# EAGLE library part SN65LVDS349 (library texas-instruments)
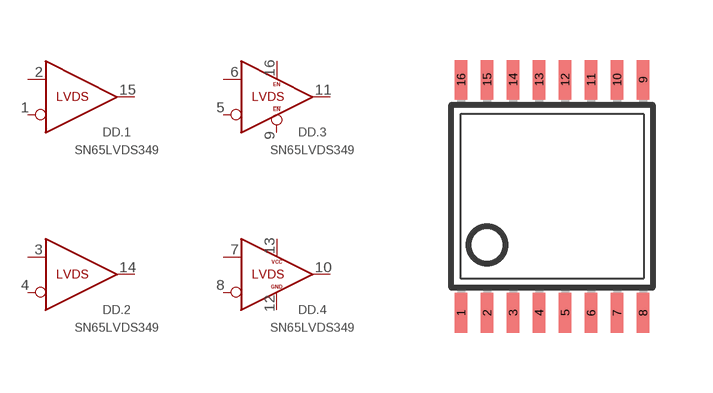
[diagram p20: symbol with the pads of TSSOP16; footprint TSSOP16]

Designator prefix DD; gates .1=LVDS_RECEIVERS .2=LVDS_RECEIVERS .3=LVDS_RECEIVERS .4=LVDS_RECEIVERS G$5=LVDS_EN G$6=LVDS_POWER

## SN65LVDS349PWR  [TSSOP16]
1  .1:!IN  in
2  .1:IN  in
3  .2:IN  in
4  .2:!IN  in
5  .3:!IN  in
6  .3:IN  in
7  .4:IN  in
8  .4:!IN  in
9  G$5:!EN  in
10  .4:OUT  out
11  .3:OUT  out
12  G$6:GND  pwr
13  G$6:VCC  pwr
14  .2:OUT  out
15  .1:OUT  out
16  G$5:EN  in

## SN65LVDS349PW  [TSSOP16]
Pads as for TSSOP16

## Footprint TSSOP16 (pad centres in mm)
Thin Shrink Small Outline Plastic 16 MAX3223-MAX3243.pdf
smd 0.305 x 0.991: 1 -2.275,-2.918; 2 -1.625,-2.918; 3 -0.975,-2.918; 4 -0.325,-2.918; 5 0.325,-2.918; 6 0.975,-2.918; 7 1.625,-2.918; 8 2.275,-2.918; 9 2.275,2.918; 10 1.625,2.918; 11 0.975,2.918; 12 0.325,2.918; 13 -0.325,2.918; 14 -0.975,2.918; 15 -1.625,2.918; 16 -2.275,2.918